# Altium footprint library con-amp-mt.PCBLIB: 51 footprints (part 3 of 4)
Each footprint in its own frame and in the unit in brackets; x right, y up, seen from the top. Pads: shape width x height; smd on the part's side, far side on the other; paste and mask are expansions set on the pad; w line width, h text height; cw(c..) or ccw(c..) is an arc to the next point about the centre after c.
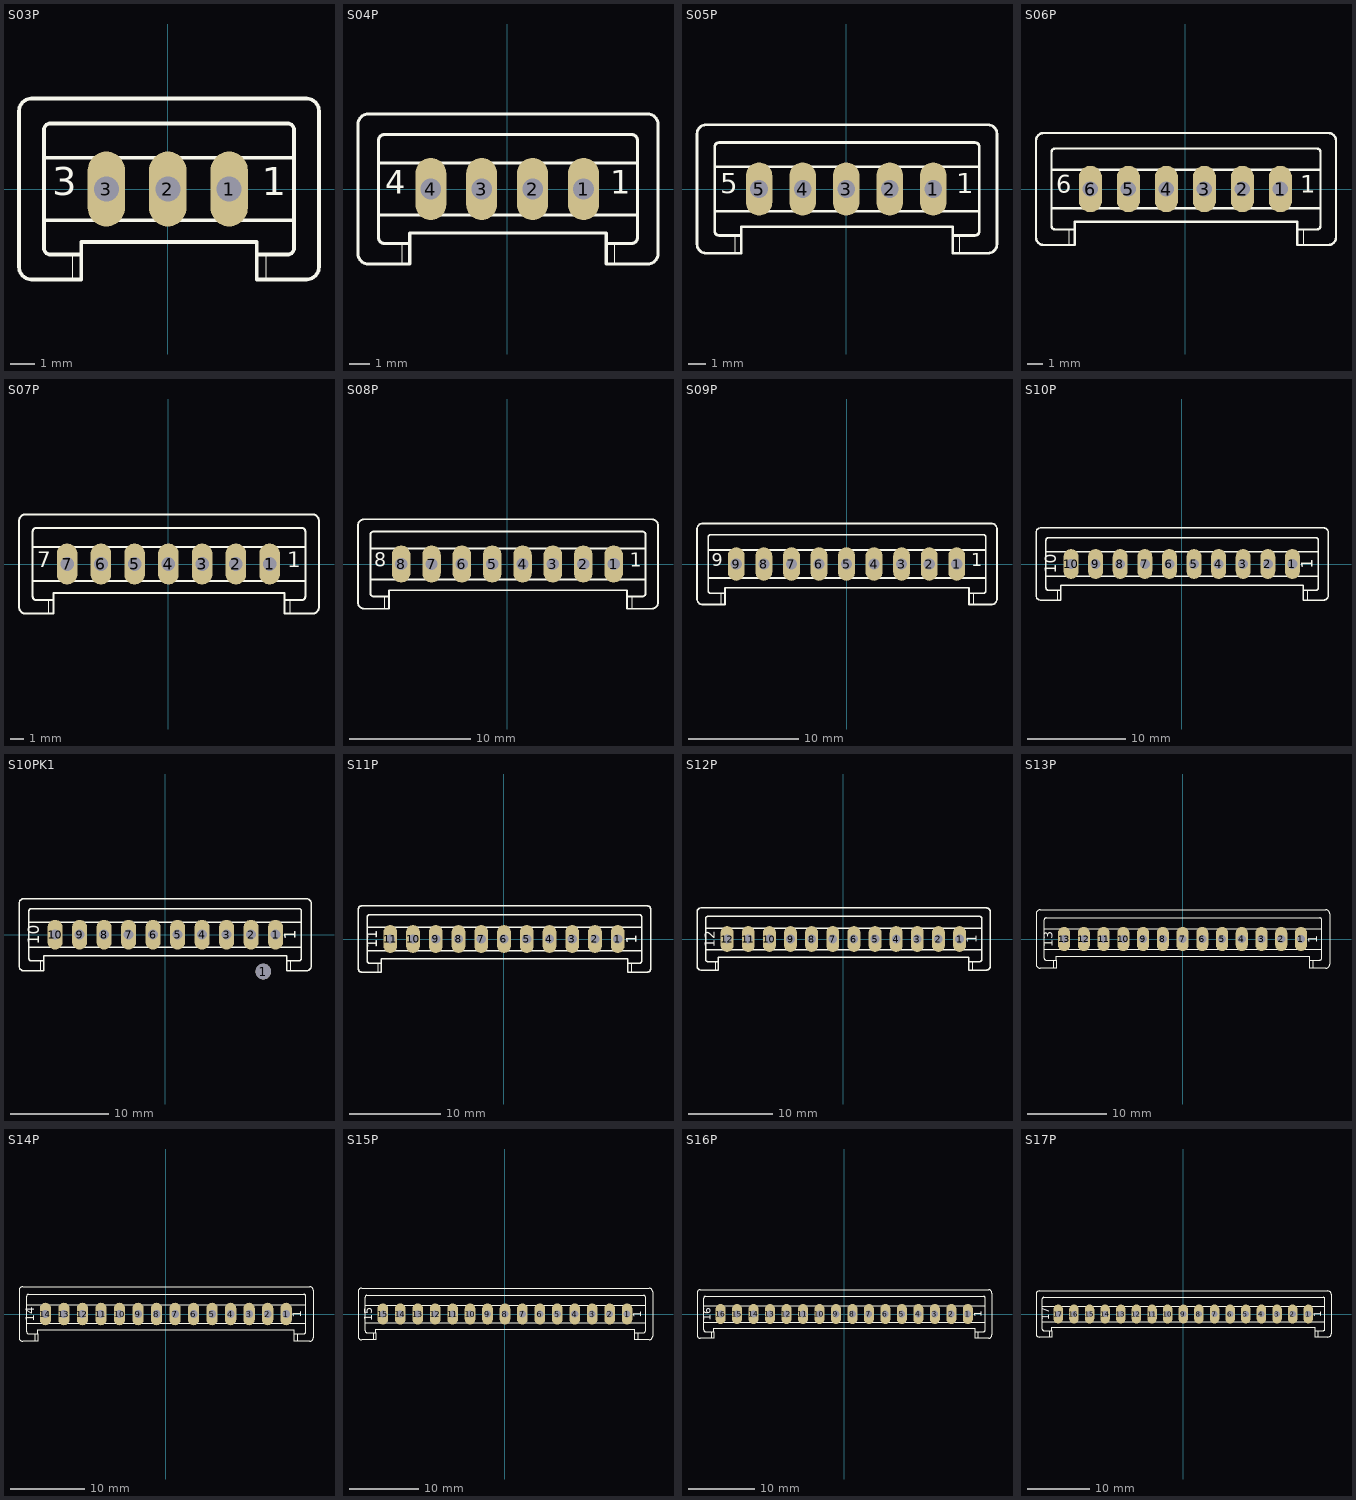
[diagram p2: the footprints below, top view; thin cyan lines are the x and y axes]

## S03P [mil]
pads (3):
  oval 60x120 hole 40: 1(98.43,0) 2(0,0) 3(-98.43,0)
Top Overlay:
  lines w2: -153.58,-145 -153.58,-105 ; 157.44,-145 157.44,-105
  lines w6: -198.58,-50 -198.58,-95 ccw(c-188.58,-95) -188.58,-105 -153.58,-105 -138.58,-105 ; -198.58,-50 202.44,-50 ; -198.58,-50 -198.58,50 ; -198.58,50 202.44,50 ; -198.58,50 -198.58,95 cw(c-188.58,95) -188.58,105 192.44,105 cw(c192.44,95) 202.44,95 202.44,50 ; -138.58,-105 -138.58,-145 -153.58,-145 -218.58,-145 cw(c-218.58,-125) -238.58,-125 -238.58,125 cw(c-218.58,125) -218.58,145 222.44,145 cw(c222.44,125) 242.44,125 242.44,-125 cw(c222.44,-125) 222.44,-145 157.44,-145 142.44,-145 142.44,-105 ; -138.58,-105 -138.58,-85 142.44,-85 142.44,-105 ; 142.44,-105 157.44,-105 192.44,-105 ccw(c192.44,-95) 202.44,-95 202.44,-50 ; 202.44,-50 202.44,50
  text "1" at 150.43,-25 h77.5
  text "3" at -185.57,-25 h77.5
Mechanical 16:
  lines w6: -112.56,-15 -82.56,-15 ; -112.56,-15 -112.56,15 ; -112.56,-15 -82.56,15 ; -112.56,15 -82.56,15 ; -112.56,15 -82.56,-15 ; -82.56,-15 -82.56,15 ; -14.57,-15 -14.57,15 ; -14.57,-15 15.43,15 ; -14.57,-15 15.43,-15 ; -14.57,15 15.43,15 ; -14.57,15 15.43,-15 ; 15.43,-15 15.43,15 ; 83.43,-15 83.43,15 ; 83.43,-15 113.43,15 ; 83.43,-15 113.43,-15 ; 83.43,15 113.43,15 ; 83.43,15 113.43,-15 ; 113.43,-15 113.43,15

## S04P [mil]
pads (4):
  oval 60x120 hole 40: 1(147.64,0) 2(49.21,0) 3(-49.21,0) 4(-147.64,0)
Top Overlay:
  lines w2: -203.35,-145 -203.35,-105 ; 206.65,-145 206.65,-105
  lines w6: -248.35,-50 -248.35,-95 ccw(c-238.35,-95) -238.35,-105 -203.35,-105 -188.35,-105 ; -248.35,-50 251.65,-50 ; -248.35,-50 -248.35,50 ; -248.35,50 251.65,50 ; -248.35,50 -248.35,95 cw(c-238.35,95) -238.35,105 241.65,105 cw(c241.65,95) 251.65,95 251.65,50 ; -188.35,-105 -188.35,-145 -203.35,-145 -268.35,-145 cw(c-268.35,-125) -288.35,-125 -288.35,125 cw(c-268.35,125) -268.35,145 271.65,145 cw(c271.65,125) 291.65,125 291.65,-125 cw(c271.65,-125) 271.65,-145 206.65,-145 191.65,-145 191.65,-105 ; -188.35,-105 -188.35,-85 191.65,-85 191.65,-105 ; 191.65,-105 206.65,-105 241.65,-105 ccw(c241.65,-95) 251.65,-95 251.65,-50 ; 251.65,-50 251.65,50
  text "1" at 199.64,-25 h77.5
  text "4" at -235.36,-25 h77.5
Mechanical 16:
  lines w6: -162.36,-15 -162.36,15 ; -162.36,-15 -132.36,-15 ; -162.36,-15 -132.36,15 ; -162.36,15 -132.36,15 ; -162.36,15 -132.36,-15 ; -132.36,-15 -132.36,15 ; -63.35,-15 -33.35,-15 ; -63.35,-15 -63.35,15 ; -63.35,-15 -33.35,15 ; -63.35,15 -33.35,15 ; -63.35,15 -33.35,-15 ; -33.35,-15 -33.35,15 ; 34.65,-15 34.65,15 ; 34.65,-15 64.65,15 ; 34.65,-15 64.65,-15 ; 34.65,15 64.65,15 ; 34.65,15 64.65,-15 ; 64.65,-15 64.65,15 ; 132.64,-15 132.64,15 ; 132.64,-15 162.64,15 ; 132.64,-15 162.64,-15 ; 132.64,15 162.64,15 ; 132.64,15 162.64,-15 ; 162.64,-15 162.64,15

## S05P [mil]
pads (5):
  oval 60x120 hole 40: 1(196.85,0) 2(98.43,0) 3(0,0) 4(-98.43,0) 5(-196.85,0)
Top Overlay:
  lines w2: -252.17,-145 -252.17,-105 ; 255.87,-145 255.87,-105
  lines w6: -297.17,-50 -297.17,-95 ccw(c-287.17,-95) -287.17,-105 -252.17,-105 -237.17,-105 ; -297.17,-50 300.87,-50 ; -297.17,-50 -297.17,50 ; -297.17,50 300.87,50 ; -297.17,50 -297.17,95 cw(c-287.17,95) -287.17,105 290.87,105 cw(c290.87,95) 300.87,95 300.87,50 ; -237.17,-105 -237.17,-145 -252.17,-145 -317.17,-145 cw(c-317.17,-125) -337.17,-125 -337.17,125 cw(c-317.17,125) -317.17,145 320.87,145 cw(c320.87,125) 340.87,125 340.87,-125 cw(c320.87,-125) 320.87,-145 255.87,-145 240.87,-145 240.87,-105 ; -237.17,-105 -237.17,-85 240.87,-85 240.87,-105 ; 240.87,-105 255.87,-105 290.87,-105 ccw(c290.87,-95) 300.87,-95 300.87,-50 ; 300.87,-50 300.87,50
  text "1" at 248.85,-25 h77.5
  text "5" at -284.15,-25 h77.5
Mechanical 16:
  lines w6: -211.14,-15 -181.14,15 ; -211.14,-15 -181.14,-15 ; -211.14,-15 -211.14,15 ; -211.14,15 -181.14,-15 ; -211.14,15 -181.14,15 ; -181.14,-15 -181.14,15 ; -113.15,-15 -113.15,15 ; -113.15,-15 -83.15,-15 ; -113.15,-15 -83.15,15 ; -113.15,15 -83.15,15 ; -113.15,15 -83.15,-15 ; -83.15,-15 -83.15,15 ; -14.13,-15 15.87,-15 ; -14.13,-15 -14.13,15 ; -14.13,-15 15.87,15 ; -14.13,15 15.87,15 ; -14.13,15 15.87,-15 ; 15.87,-15 15.87,15 ; 83.86,-15 83.86,15 ; 83.86,-15 113.86,15 ; 83.86,-15 113.86,-15 ; 83.86,15 113.86,15 ; 83.86,15 113.86,-15 ; 113.86,-15 113.86,15 ; 181.85,-15 181.85,15 ; 181.85,-15 211.85,15 ; 181.85,-15 211.85,-15 ; 181.85,15 211.85,15 ; 181.85,15 211.85,-15 ; 211.85,-15 211.85,15

## S06P [mil]
pads (6):
  oval 60x120 hole 40: 1(246.06,0) 2(147.64,0) 3(49.21,0) 4(-49.21,0) 5(-147.64,0) 6(-246.06,0)
Top Overlay:
  lines w2: -301.93,-145 -301.93,-105 ; 305.08,-145 305.08,-105
  lines w6: -346.93,-50 -346.93,-95 ccw(c-336.93,-95) -336.93,-105 -301.93,-105 -286.93,-105 ; -346.93,-50 350.08,-50 ; -346.93,-50 -346.93,50 ; -346.93,50 350.08,50 ; -346.93,50 -346.93,95 cw(c-336.93,95) -336.93,105 340.08,105 cw(c340.08,95) 350.08,95 350.08,50 ; -286.93,-105 -286.93,-145 -301.93,-145 -366.93,-145 cw(c-366.93,-125) -386.93,-125 -386.93,125 cw(c-366.93,125) -366.93,145 370.08,145 cw(c370.08,125) 390.08,125 390.08,-125 cw(c370.08,-125) 370.08,-145 305.08,-145 290.08,-145 290.08,-105 ; -286.93,-105 -286.93,-85 290.08,-85 290.08,-105 ; 290.08,-105 305.08,-105 340.08,-105 ccw(c340.08,-95) 350.08,-95 350.08,-50 ; 350.08,-50 350.08,50
  text "1" at 298.06,-25 h77.5
  text "6" at -333.94,-25 h77.5
Mechanical 16:
  lines w6: -261.93,-15 -231.93,15 ; -261.93,-15 -261.93,15 ; -261.93,-15 -231.93,-15 ; -261.93,15 -231.93,-15 ; -261.93,15 -231.93,15 ; -231.93,-15 -231.93,15 ; -161.93,-15 -131.93,15 ; -161.93,-15 -131.93,-15 ; -161.93,-15 -161.93,15 ; -161.93,15 -131.93,-15 ; -161.93,15 -131.93,15 ; -131.93,-15 -131.93,15 ; -63.94,-15 -63.94,15 ; -63.94,-15 -33.94,-15 ; -63.94,-15 -33.94,15 ; -63.94,15 -33.94,15 ; -63.94,15 -33.94,-15 ; -33.94,-15 -33.94,15 ; 35.08,-15 65.08,-15 ; 35.08,-15 35.08,15 ; 35.08,-15 65.08,15 ; 35.08,15 65.08,15 ; 35.08,15 65.08,-15 ; 65.08,-15 65.08,15 ; 133.07,-15 133.07,15 ; 133.07,-15 163.07,15 ; 133.07,-15 163.07,-15 ; 133.07,15 163.07,15 ; 133.07,15 163.07,-15 ; 163.07,-15 163.07,15 ; 231.06,-15 231.06,15 ; 231.06,-15 261.06,15 ; 231.06,-15 261.06,-15 ; 231.06,15 261.06,15 ; 231.06,15 261.06,-15 ; 261.06,-15 261.06,15

## S07P [mil]
pads (7):
  oval 60x120 hole 40: 1(295.28,0) 2(196.85,0) 3(98.43,0) 4(0,0) 5(-98.43,0) 6(-196.85,0) 7(-295.28,0)
Top Overlay:
  lines w2: -350.71,-145 -350.71,-105 ; 354.29,-145 354.29,-105
  lines w6: -395.71,-50 -395.71,-95 ccw(c-385.71,-95) -385.71,-105 -350.71,-105 -335.71,-105 ; -395.71,-50 399.29,-50 ; -395.71,-50 -395.71,50 ; -395.71,50 399.29,50 ; -395.71,50 -395.71,95 cw(c-385.71,95) -385.71,105 389.29,105 cw(c389.29,95) 399.29,95 399.29,50 ; -335.71,-105 -335.71,-145 -350.71,-145 -415.71,-145 cw(c-415.71,-125) -435.71,-125 -435.71,125 cw(c-415.71,125) -415.71,145 419.29,145 cw(c419.29,125) 439.29,125 439.29,-125 cw(c419.29,-125) 419.29,-145 354.29,-145 339.29,-145 339.29,-105 ; -335.71,-105 -335.71,-85 339.29,-85 339.29,-105 ; 339.29,-105 354.29,-105 389.29,-105 ccw(c389.29,-95) 399.29,-95 399.29,-50 ; 399.29,-50 399.29,50
  text "1" at 347.28,-25 h77.5
  text "7" at -382.72,-25 h77.5
Mechanical 16:
  lines w6: -310.71,-15 -280.71,-15 ; -310.71,-15 -310.71,15 ; -310.71,-15 -280.71,15 ; -310.71,15 -280.71,15 ; -310.71,15 -280.71,-15 ; -280.71,-15 -280.71,15 ; -212.72,-15 -182.72,15 ; -212.72,-15 -212.72,15 ; -212.72,-15 -182.72,-15 ; -212.72,15 -182.72,-15 ; -212.72,15 -182.72,15 ; -182.72,-15 -182.72,15 ; -112.72,-15 -82.72,15 ; -112.72,-15 -82.72,-15 ; -112.72,-15 -112.72,15 ; -112.72,15 -82.72,-15 ; -112.72,15 -82.72,15 ; -82.72,-15 -82.72,15 ; -14.72,-15 -14.72,15 ; -14.72,-15 15.28,-15 ; -14.72,-15 15.28,15 ; -14.72,15 15.28,15 ; -14.72,15 15.28,-15 ; 15.28,-15 15.28,15 ; 84.29,-15 114.29,-15 ; 84.29,-15 84.29,15 ; 84.29,-15 114.29,15 ; 84.29,15 114.29,15 ; 84.29,15 114.29,-15 ; 114.29,-15 114.29,15 ; 182.28,-15 182.28,15 ; 182.28,-15 212.28,15 ; 182.28,-15 212.28,-15 ; 182.28,15 212.28,15 ; 182.28,15 212.28,-15 ; 212.28,-15 212.28,15 ; 280.28,-15 280.28,15 ; 280.28,-15 310.28,15 ; 280.28,-15 310.28,-15 ; 280.28,15 310.28,15 ; 280.28,15 310.28,-15 ; 310.28,-15 310.28,15

## S08P [mil]
pads (8):
  oval 60x120 hole 40: 1(344.49,0) 2(246.06,0) 3(147.64,0) 4(49.21,0) 5(-49.21,0) 6(-147.64,0) 7(-246.06,0) 8(-344.49,0)
Top Overlay:
  lines w2: -399.53,-145 -399.53,-105 ; 403.5,-145 403.5,-105
  lines w6: -444.53,-50 -444.53,-95 ccw(c-434.53,-95) -434.53,-105 -399.53,-105 -384.53,-105 ; -444.53,-50 448.5,-50 ; -444.53,-50 -444.53,50 ; -444.53,50 448.5,50 ; -444.53,50 -444.53,95 cw(c-434.53,95) -434.53,105 438.5,105 cw(c438.5,95) 448.5,95 448.5,50 ; -384.53,-105 -384.53,-145 -399.53,-145 -464.53,-145 cw(c-464.53,-125) -484.53,-125 -484.53,125 cw(c-464.53,125) -464.53,145 468.5,145 cw(c468.5,125) 488.5,125 488.5,-125 cw(c468.5,-125) 468.5,-145 403.5,-145 388.5,-145 388.5,-105 ; -384.53,-105 -384.53,-85 388.5,-85 388.5,-105 ; 388.5,-105 403.5,-105 438.5,-105 ccw(c438.5,-95) 448.5,-95 448.5,-50 ; 448.5,-50 448.5,50
  text "1" at 396.49,-25 h77.5
  text "8" at -431.51,-25 h77.5
Mechanical 16:
  lines w6: -360.51,-15 -330.51,-15 ; -360.51,-15 -360.51,15 ; -360.51,-15 -330.51,15 ; -360.51,15 -330.51,15 ; -360.51,15 -330.51,-15 ; -330.51,-15 -330.51,15 ; -261.5,-15 -231.5,-15 ; -261.5,-15 -261.5,15 ; -261.5,-15 -231.5,15 ; -261.5,15 -231.5,15 ; -261.5,15 -231.5,-15 ; -231.5,-15 -231.5,15 ; -163.5,-15 -133.5,15 ; -163.5,-15 -163.5,15 ; -163.5,-15 -133.5,-15 ; -163.5,15 -133.5,-15 ; -163.5,15 -133.5,15 ; -133.5,-15 -133.5,15 ; -63.5,-15 -33.5,15 ; -63.5,-15 -33.5,-15 ; -63.5,-15 -63.5,15 ; -63.5,15 -33.5,-15 ; -63.5,15 -33.5,15 ; -33.5,-15 -33.5,15 ; 34.49,-15 34.49,15 ; 34.49,-15 64.49,-15 ; 34.49,-15 64.49,15 ; 34.49,15 64.49,15 ; 34.49,15 64.49,-15 ; 64.49,-15 64.49,15 ; 133.5,-15 163.5,-15 ; 133.5,-15 133.5,15 ; 133.5,-15 163.5,15 ; 133.5,15 163.5,15 ; 133.5,15 163.5,-15 ; 163.5,-15 163.5,15 ; 231.5,-15 231.5,15 ; 231.5,-15 261.5,15 ; 231.5,-15 261.5,-15 ; 231.5,15 261.5,15 ; 231.5,15 261.5,-15 ; 261.5,-15 261.5,15 ; 329.49,-15 329.49,15 ; 329.49,-15 359.49,15 ; 329.49,-15 359.49,-15 ; 329.49,15 359.49,15 ; 329.49,15 359.49,-15 ; 359.49,-15 359.49,15

## S09P [mil]
pads (9):
  oval 60x120 hole 40: 1(393.7,0) 2(295.28,0) 3(196.85,0) 4(98.43,0) 5(0,0) 6(-98.43,0) 7(-196.85,0) 8(-295.28,0) 9(-393.7,0)
Top Overlay:
  lines w2: -449.3,-145 -449.3,-105 ; 452.7,-145 452.7,-105
  lines w6: -494.3,-50 -494.3,-95 ccw(c-484.3,-95) -484.3,-105 -449.3,-105 -434.3,-105 ; -494.3,-50 497.7,-50 ; -494.3,-50 -494.3,50 ; -494.3,50 497.7,50 ; -494.3,50 -494.3,95 cw(c-484.3,95) -484.3,105 487.7,105 cw(c487.7,95) 497.7,95 497.7,50 ; -434.3,-105 -434.3,-145 -449.3,-145 -514.3,-145 cw(c-514.3,-125) -534.3,-125 -534.3,125 cw(c-514.3,125) -514.3,145 517.7,145 cw(c517.7,125) 537.7,125 537.7,-125 cw(c517.7,-125) 517.7,-145 452.7,-145 437.7,-145 437.7,-105 ; -434.3,-105 -434.3,-85 437.7,-85 437.7,-105 ; 437.7,-105 452.7,-105 487.7,-105 ccw(c487.7,-95) 497.7,-95 497.7,-50 ; 497.7,-50 497.7,50
  text "1" at 445.7,-25 h77.5
  text "9" at -481.3,-25 h77.5
Mechanical 16:
  lines w6: -409.3,-15 -409.3,15 ; -409.3,-15 -379.3,15 ; -409.3,-15 -379.3,-15 ; -409.3,15 -379.3,15 ; -409.3,15 -379.3,-15 ; -379.3,-15 -379.3,15 ; -311.3,-15 -281.3,-15 ; -311.3,-15 -311.3,15 ; -311.3,-15 -281.3,15 ; -311.3,15 -281.3,15 ; -311.3,15 -281.3,-15 ; -281.3,-15 -281.3,15 ; -212.3,-15 -182.3,-15 ; -212.3,-15 -212.3,15 ; -212.3,-15 -182.3,15 ; -212.3,15 -182.3,15 ; -212.3,15 -182.3,-15 ; -182.3,-15 -182.3,15 ; -114.3,-15 -84.3,15 ; -114.3,-15 -114.3,15 ; -114.3,-15 -84.3,-15 ; -114.3,15 -84.3,-15 ; -114.3,15 -84.3,15 ; -84.3,-15 -84.3,15 ; -14.3,-15 15.7,15 ; -14.3,-15 15.7,-15 ; -14.3,-15 -14.3,15 ; -14.3,15 15.7,-15 ; -14.3,15 15.7,15 ; 15.7,-15 15.7,15 ; 83.7,-15 83.7,15 ; 83.7,-15 113.7,-15 ; 83.7,-15 113.7,15 ; 83.7,15 113.7,15 ; 83.7,15 113.7,-15 ; 113.7,-15 113.7,15 ; 182.7,-15 212.7,-15 ; 182.7,-15 182.7,15 ; 182.7,-15 212.7,15 ; 182.7,15 212.7,15 ; 182.7,15 212.7,-15 ; 212.7,-15 212.7,15 ; 280.7,-15 280.7,15 ; 280.7,-15 310.7,15 ; 280.7,-15 310.7,-15 ; 280.7,15 310.7,15 ; 280.7,15 310.7,-15 ; 310.7,-15 310.7,15 ; 378.7,-15 378.7,15 ; 378.7,-15 408.7,15 ; 378.7,-15 408.7,-15 ; 378.7,15 408.7,15 ; 378.7,15 408.7,-15 ; 408.7,-15 408.7,15

## S10P [mil]
pads (10):
  oval 60x120 hole 40: 1(442.91,0) 2(344.49,0) 3(246.06,0) 4(147.64,0) 5(49.21,0) 6(-49.21,0) 7(-147.64,0) 8(-246.06,0) 9(-344.49,0) 10(-442.91,0)
Top Overlay:
  lines w2: -498.07,-145 -498.07,-105 ; 501.93,-145 501.93,-105
  lines w6: -543.07,-50 -543.07,-95 ccw(c-533.07,-95) -533.07,-105 -498.07,-105 -483.07,-105 ; -543.07,-50 546.93,-50 ; -543.07,-50 -543.07,50 ; -543.07,50 546.93,50 ; -543.07,50 -543.07,95 cw(c-533.07,95) -533.07,105 536.93,105 cw(c536.93,95) 546.93,95 546.93,50 ; -483.07,-105 -483.07,-145 -498.07,-145 -563.07,-145 cw(c-563.07,-125) -583.07,-125 -583.07,125 cw(c-563.07,125) -563.07,145 566.93,145 cw(c566.93,125) 586.93,125 586.93,-125 cw(c566.93,-125) 566.93,-145 501.93,-145 486.93,-145 486.93,-105 ; -483.07,-105 -483.07,-85 486.93,-85 486.93,-105 ; 486.93,-105 501.93,-105 536.93,-105 ccw(c536.93,-95) 546.93,-95 546.93,-50 ; 546.93,-50 546.93,50
  text "1" at 539.91,-20 h77.5
  text "10" at -485.09,-40 h77.5
Mechanical 16:
  lines w6: -458.07,-15 -428.07,-15 ; -458.07,-15 -458.07,15 ; -458.07,-15 -428.07,15 ; -458.07,15 -428.07,15 ; -458.07,15 -428.07,-15 ; -428.07,-15 -428.07,15 ; -360.08,-15 -360.08,15 ; -360.08,-15 -330.08,15 ; -360.08,-15 -330.08,-15 ; -360.08,15 -330.08,15 ; -360.08,15 -330.08,-15 ; -330.08,-15 -330.08,15 ; -262.09,-15 -232.09,-15 ; -262.09,-15 -262.09,15 ; -262.09,-15 -232.09,15 ; -262.09,15 -232.09,15 ; -262.09,15 -232.09,-15 ; -232.09,-15 -232.09,15 ; -163.07,-15 -133.07,-15 ; -163.07,-15 -163.07,15 ; -163.07,-15 -133.07,15 ; -163.07,15 -133.07,15 ; -163.07,15 -133.07,-15 ; -133.07,-15 -133.07,15 ; -65.08,-15 -35.08,15 ; -65.08,-15 -65.08,15 ; -65.08,-15 -35.08,-15 ; -65.08,15 -35.08,-15 ; -65.08,15 -35.08,15 ; -35.08,-15 -35.08,15 ; 34.92,-15 64.92,15 ; 34.92,-15 64.92,-15 ; 34.92,-15 34.92,15 ; 34.92,15 64.92,-15 ; 34.92,15 64.92,15 ; 64.92,-15 64.92,15 ; 132.91,-15 132.91,15 ; 132.91,-15 162.91,-15 ; 132.91,-15 162.91,15 ; 132.91,15 162.91,15 ; 132.91,15 162.91,-15 ; 162.91,-15 162.91,15 ; 231.93,-15 261.93,-15 ; 231.93,-15 231.93,15 ; 231.93,-15 261.93,15 ; 231.93,15 261.93,15 ; 231.93,15 261.93,-15 ; 261.93,-15 261.93,15 ; 329.92,-15 329.92,15 ; 329.92,-15 359.92,15 ; 329.92,-15 359.92,-15 ; 329.92,15 359.92,15 ; 329.92,15 359.92,-15 ; 359.92,-15 359.92,15 ; 427.91,-15 427.91,15 ; 427.91,-15 457.91,15 ; 427.91,-15 457.91,-15 ; 427.91,15 457.91,15 ; 427.91,15 457.91,-15 ; 457.91,-15 457.91,15

## S10PK1 [mil]
pads (11):
  round 63 hole 63: 1(393.91,-148)
  oval 60x120 hole 40: 1(442.91,0) 2(344.49,0) 3(246.06,0) 4(147.64,0) 5(49.21,0) 6(-49.21,0) 7(-147.64,0) 8(-246.06,0) 9(-344.49,0) 10(-442.91,0)
Top Overlay:
  lines w2: -503.07,-145 -503.07,-105 ; 501.93,-145 501.93,-105
  lines w6: -548.07,-50 -548.07,-95 ccw(c-538.07,-95) -538.07,-105 -503.07,-105 -488.07,-105 ; -548.07,-50 546.93,-50 ; -548.07,-50 -548.07,50 ; -548.07,50 546.93,50 ; -548.07,50 -548.07,95 cw(c-538.07,95) -538.07,105 536.93,105 cw(c536.93,95) 546.93,95 546.93,50 ; -488.07,-105 -488.07,-145 -503.07,-145 -568.07,-145 cw(c-568.07,-125) -588.07,-125 -588.07,125 cw(c-568.07,125) -568.07,145 566.93,145 cw(c566.93,125) 586.93,125 586.93,-125 cw(c566.93,-125) 566.93,-145 501.93,-145 486.93,-145 486.93,-105 ; -488.07,-105 -488.07,-85 486.93,-85 486.93,-105 ; 486.93,-105 501.93,-105 536.93,-105 ccw(c536.93,-95) 546.93,-95 546.93,-50 ; 546.93,-50 546.93,50
  text "1" at 539.91,-20 h77.5
  text "10" at -490.09,-40 h77.5
Mechanical 16:
  lines w6: -458.07,-15 -428.07,-15 ; -458.07,-15 -458.07,15 ; -458.07,-15 -428.07,15 ; -458.07,15 -428.07,15 ; -458.07,15 -428.07,-15 ; -428.07,-15 -428.07,15 ; -360.08,-15 -360.08,15 ; -360.08,-15 -330.08,15 ; -360.08,-15 -330.08,-15 ; -360.08,15 -330.08,15 ; -360.08,15 -330.08,-15 ; -330.08,-15 -330.08,15 ; -262.09,-15 -232.09,-15 ; -262.09,-15 -262.09,15 ; -262.09,-15 -232.09,15 ; -262.09,15 -232.09,15 ; -262.09,15 -232.09,-15 ; -232.09,-15 -232.09,15 ; -163.07,-15 -133.07,-15 ; -163.07,-15 -163.07,15 ; -163.07,-15 -133.07,15 ; -163.07,15 -133.07,15 ; -163.07,15 -133.07,-15 ; -133.07,-15 -133.07,15 ; -65.08,-15 -35.08,15 ; -65.08,-15 -65.08,15 ; -65.08,-15 -35.08,-15 ; -65.08,15 -35.08,-15 ; -65.08,15 -35.08,15 ; -35.08,-15 -35.08,15 ; 34.92,-15 64.92,15 ; 34.92,-15 64.92,-15 ; 34.92,-15 34.92,15 ; 34.92,15 64.92,-15 ; 34.92,15 64.92,15 ; 64.92,-15 64.92,15 ; 132.91,-15 132.91,15 ; 132.91,-15 162.91,-15 ; 132.91,-15 162.91,15 ; 132.91,15 162.91,15 ; 132.91,15 162.91,-15 ; 162.91,-15 162.91,15 ; 231.93,-15 261.93,-15 ; 231.93,-15 231.93,15 ; 231.93,-15 261.93,15 ; 231.93,15 261.93,15 ; 231.93,15 261.93,-15 ; 261.93,-15 261.93,15 ; 329.92,-15 329.92,15 ; 329.92,-15 359.92,15 ; 329.92,-15 359.92,-15 ; 329.92,15 359.92,15 ; 329.92,15 359.92,-15 ; 359.92,-15 359.92,15 ; 427.91,-15 427.91,15 ; 427.91,-15 457.91,15 ; 427.91,-15 457.91,-15 ; 427.91,15 457.91,15 ; 427.91,15 457.91,-15 ; 457.91,-15 457.91,15

## S11P [mil]
pads (11):
  oval 60x120 hole 40: 1(492.13,0) 2(393.7,0) 3(295.28,0) 4(196.85,0) 5(98.43,0) 6(0,0) 7(-98.43,0) 8(-196.85,0) 9(-295.28,0) 10(-393.7,0) 11(-492.13,0)
Top Overlay:
  lines w2: -546.89,-145 -546.89,-105 ; 551.14,-145 551.14,-105
  lines w6: -591.89,-50 -591.89,-95 ccw(c-581.89,-95) -581.89,-105 -546.89,-105 -531.89,-105 ; -591.89,-50 596.14,-50 ; -591.89,-50 -591.89,50 ; -591.89,50 596.14,50 ; -591.89,50 -591.89,95 cw(c-581.89,95) -581.89,105 586.14,105 cw(c586.14,95) 596.14,95 596.14,50 ; -531.89,-105 -531.89,-145 -546.89,-145 -611.89,-145 cw(c-611.89,-125) -631.89,-125 -631.89,125 cw(c-611.89,125) -611.89,145 616.14,145 cw(c616.14,125) 636.14,125 636.14,-125 cw(c616.14,-125) 616.14,-145 551.14,-145 536.14,-145 536.14,-105 ; -531.89,-105 -531.89,-85 536.14,-85 536.14,-105 ; 536.14,-105 551.14,-105 586.14,-105 ccw(c586.14,-95) 596.14,-95 596.14,-50 ; 596.14,-50 596.14,50
  text "1" at 589.13,-20 h77.5
  text "11" at -533.87,-40 h77.5
Mechanical 16:
  lines w6: -506.89,-15 -476.89,-15 ; -506.89,-15 -506.89,15 ; -506.89,-15 -476.89,15 ; -506.89,15 -476.89,-15 ; -506.89,15 -476.89,15 ; -476.89,-15 -476.89,15 ; -408.86,-15 -378.86,-15 ; -408.86,-15 -408.86,15 ; -408.86,-15 -378.86,15 ; -408.86,15 -378.86,15 ; -408.86,15 -378.86,-15 ; -378.86,-15 -378.86,15 ; -310.87,-15 -310.87,15 ; -310.87,-15 -280.87,15 ; -310.87,-15 -280.87,-15 ; -310.87,15 -280.87,15 ; -310.87,15 -280.87,-15 ; -280.87,-15 -280.87,15 ; -212.87,-15 -182.87,-15 ; -212.87,-15 -212.87,15 ; -212.87,-15 -182.87,15 ; -212.87,15 -182.87,15 ; -212.87,15 -182.87,-15 ; -182.87,-15 -182.87,15 ; -113.86,-15 -83.86,-15 ; -113.86,-15 -113.86,15 ; -113.86,-15 -83.86,15 ; -113.86,15 -83.86,15 ; -113.86,15 -83.86,-15 ; -83.86,-15 -83.86,15 ; -15.87,-15 14.13,15 ; -15.87,-15 -15.87,15 ; -15.87,-15 14.13,-15 ; -15.87,15 14.13,-15 ; -15.87,15 14.13,15 ; 14.13,-15 14.13,15 ; 84.13,-15 114.13,15 ; 84.13,-15 114.13,-15 ; 84.13,-15 84.13,15 ; 84.13,15 114.13,-15 ; 84.13,15 114.13,15 ; 114.13,-15 114.13,15 ; 182.13,-15 182.13,15 ; 182.13,-15 212.13,-15 ; 182.13,-15 212.13,15 ; 182.13,15 212.13,15 ; 182.13,15 212.13,-15 ; 212.13,-15 212.13,15 ; 281.14,-15 311.14,-15 ; 281.14,-15 281.14,15 ; 281.14,-15 311.14,15 ; 281.14,15 311.14,15 ; 281.14,15 311.14,-15 ; 311.14,-15 311.14,15 ; 379.13,-15 379.13,15 ; 379.13,-15 409.13,15 ; 379.13,-15 409.13,-15 ; 379.13,15 409.13,15 ; 379.13,15 409.13,-15 ; 409.13,-15 409.13,15 ; 477.13,-15 477.13,15 ; 477.13,-15 507.13,15 ; 477.13,-15 507.13,-15 ; 477.13,15 507.13,15 ; 477.13,15 507.13,-15 ; 507.13,-15 507.13,15

## S12P [mil]
pads (12):
  oval 60x120 hole 40: 1(541.34,0) 2(442.91,0) 3(344.49,0) 4(246.06,0) 5(147.64,0) 6(49.21,0) 7(-49.21,0) 8(-147.64,0) 9(-246.06,0) 10(-344.49,0) 11(-442.91,0) 12(-541.34,0)
Top Overlay:
  lines w2: -596.65,-145 -596.65,-105 ; 600.35,-145 600.35,-105
  lines w6: -641.65,-50 -641.65,-95 ccw(c-631.65,-95) -631.65,-105 -596.65,-105 -581.65,-105 ; -641.65,-50 645.35,-50 ; -641.65,-50 -641.65,50 ; -641.65,50 645.35,50 ; -641.65,50 -641.65,95 cw(c-631.65,95) -631.65,105 635.35,105 cw(c635.35,95) 645.35,95 645.35,50 ; -581.65,-105 -581.65,-145 -596.65,-145 -661.65,-145 cw(c-661.65,-125) -681.65,-125 -681.65,125 cw(c-661.65,125) -661.65,145 665.35,145 cw(c665.35,125) 685.35,125 685.35,-125 cw(c665.35,-125) 665.35,-145 600.35,-145 585.35,-145 585.35,-105 ; -581.65,-105 -581.65,-85 585.35,-85 585.35,-105 ; 585.35,-105 600.35,-105 635.35,-105 ccw(c635.35,-95) 645.35,-95 645.35,-50 ; 645.35,-50 645.35,50
  text "1" at 638.34,-20 h77.5
  text "12" at -583.66,-40 h77.5
Mechanical 16:
  lines w6: -556.65,-15 -526.65,15 ; -556.65,-15 -556.65,15 ; -556.65,-15 -526.65,-15 ; -556.65,15 -526.65,-15 ; -556.65,15 -526.65,15 ; -526.65,-15 -526.65,15 ; -457.68,-15 -427.68,15 ; -457.68,-15 -457.68,15 ; -457.68,-15 -427.68,-15 ; -457.68,15 -427.68,-15 ; -457.68,15 -427.68,15 ; -427.68,-15 -427.68,15 ; -359.65,-15 -329.65,-15 ; -359.65,-15 -359.65,15 ; -359.65,-15 -329.65,15 ; -359.65,15 -329.65,15 ; -359.65,15 -329.65,-15 ; -329.65,-15 -329.65,15 ; -261.65,-15 -261.65,15 ; -261.65,-15 -231.65,15 ; -261.65,-15 -231.65,-15 ; -261.65,15 -231.65,15 ; -261.65,15 -231.65,-15 ; -231.65,-15 -231.65,15 ; -163.66,-15 -133.66,-15 ; -163.66,-15 -163.66,15 ; -163.66,-15 -133.66,15 ; -163.66,15 -133.66,15 ; -163.66,15 -133.66,-15 ; -133.66,-15 -133.66,15 ; -64.65,-15 -34.65,-15 ; -64.65,-15 -64.65,15 ; -64.65,-15 -34.65,15 ; -64.65,15 -34.65,15 ; -64.65,15 -34.65,-15 ; -34.65,-15 -34.65,15 ; 33.35,-15 63.35,15 ; 33.35,-15 33.35,15 ; 33.35,-15 63.35,-15 ; 33.35,15 63.35,-15 ; 33.35,15 63.35,15 ; 63.35,-15 63.35,15 ; 133.35,-15 163.35,15 ; 133.35,-15 163.35,-15 ; 133.35,-15 133.35,15 ; 133.35,15 163.35,-15 ; 133.35,15 163.35,15 ; 163.35,-15 163.35,15 ; 231.34,-15 231.34,15 ; 231.34,-15 261.34,-15 ; 231.34,-15 261.34,15 ; 231.34,15 261.34,15 ; 231.34,15 261.34,-15 ; 261.34,-15 261.34,15 ; 330.35,-15 360.35,-15 ; 330.35,-15 330.35,15 ; 330.35,-15 360.35,15 ; 330.35,15 360.35,15 ; 330.35,15 360.35,-15 ; 360.35,-15 360.35,15 ; 428.35,-15 428.35,15 ; 428.35,-15 458.35,15 ; 428.35,-15 458.35,-15 ; 428.35,15 458.35,15 ; 428.35,15 458.35,-15 ; 458.35,-15 458.35,15 ; 526.34,-15 526.34,15 ; 526.34,-15 556.34,15 ; 526.34,-15 556.34,-15 ; 526.34,15 556.34,15 ; 526.34,15 556.34,-15 ; 556.34,-15 556.34,15

## S13P [mil]
pads (13):
  oval 60x120 hole 40: 1(590.55,0) 2(492.13,0) 3(393.7,0) 4(295.28,0) 5(196.85,0) 6(98.43,0) 7(0,0) 8(-98.43,0) 9(-196.85,0) 10(-295.28,0) 11(-393.7,0) 12(-492.13,0) 13(-590.55,0)
Top Overlay:
  lines w2: -645.43,-145 -645.43,-105 ; 649.57,-145 649.57,-105
  lines w6: -690.43,-50 -690.43,-95 ccw(c-680.43,-95) -680.43,-105 -645.43,-105 -630.43,-105 ; -690.43,-50 694.57,-50 ; -690.43,-50 -690.43,50 ; -690.43,50 694.57,50 ; -690.43,50 -690.43,95 cw(c-680.43,95) -680.43,105 684.57,105 cw(c684.57,95) 694.57,95 694.57,50 ; -630.43,-105 -630.43,-145 -645.43,-145 -710.43,-145 cw(c-710.43,-125) -730.43,-125 -730.43,125 cw(c-710.43,125) -710.43,145 714.57,145 cw(c714.57,125) 734.57,125 734.57,-125 cw(c714.57,-125) 714.57,-145 649.57,-145 634.57,-145 634.57,-105 ; -630.43,-105 -630.43,-85 634.57,-85 634.57,-105 ; 634.57,-105 649.57,-105 684.57,-105 ccw(c684.57,-95) 694.57,-95 694.57,-50 ; 694.57,-50 694.57,50
  text "1" at 687.55,-20 h77.5
  text "13" at -632.45,-40 h77.5
Mechanical 16:
  lines w6: -605.43,-15 -575.43,15 ; -605.43,-15 -575.43,-15 ; -605.43,-15 -605.43,15 ; -605.43,15 -575.43,-15 ; -605.43,15 -575.43,15 ; -575.43,-15 -575.43,15 ; -507.44,-15 -477.44,15 ; -507.44,-15 -477.44,-15 ; -507.44,-15 -507.44,15 ; -507.44,15 -477.44,-15 ; -507.44,15 -477.44,15 ; -477.44,-15 -477.44,15 ; -408.46,-15 -378.46,15 ; -408.46,-15 -378.46,-15 ; -408.46,-15 -408.46,15 ; -408.46,15 -378.46,-15 ; -408.46,15 -378.46,15 ; -378.46,-15 -378.46,15 ; -310.43,-15 -280.43,-15 ; -310.43,-15 -310.43,15 ; -310.43,-15 -280.43,15 ; -310.43,15 -280.43,15 ; -310.43,15 -280.43,-15 ; -280.43,-15 -280.43,15 ; -212.44,-15 -212.44,15 ; -212.44,-15 -182.44,15 ; -212.44,-15 -182.44,-15 ; -212.44,15 -182.44,15 ; -212.44,15 -182.44,-15 ; -182.44,-15 -182.44,15 ; -114.45,-15 -84.45,-15 ; -114.45,-15 -114.45,15 ; -114.45,-15 -84.45,15 ; -114.45,15 -84.45,15 ; -114.45,15 -84.45,-15 ; -84.45,-15 -84.45,15 ; -15.43,-15 14.57,-15 ; -15.43,-15 -15.43,15 ; -15.43,-15 14.57,15 ; -15.43,15 14.57,15 ; -15.43,15 14.57,-15 ; 14.57,-15 14.57,15 ; 82.56,-15 112.56,15 ; 82.56,-15 82.56,15 ; 82.56,-15 112.56,-15 ; 82.56,15 112.56,-15 ; 82.56,15 112.56,15 ; 112.56,-15 112.56,15 ; 182.56,-15 212.56,15 ; 182.56,-15 212.56,-15 ; 182.56,-15 182.56,15 ; 182.56,15 212.56,-15 ; 182.56,15 212.56,15 ; 212.56,-15 212.56,15 ; 280.55,-15 280.55,15 ; 280.55,-15 310.55,-15 ; 280.55,-15 310.55,15 ; 280.55,15 310.55,15 ; 280.55,15 310.55,-15 ; 310.55,-15 310.55,15 ; 379.57,-15 409.57,-15 ; 379.57,-15 379.57,15 ; 379.57,-15 409.57,15 ; 379.57,15 409.57,15 ; 379.57,15 409.57,-15 ; 409.57,-15 409.57,15 ; 477.56,-15 477.56,15 ; 477.56,-15 507.56,15 ; 477.56,-15 507.56,-15 ; 477.56,15 507.56,15 ; 477.56,15 507.56,-15 ; 507.56,-15 507.56,15 ; 575.55,-15 575.55,15 ; 575.55,-15 605.55,15 ; 575.55,-15 605.55,-15 ; 575.55,15 605.55,15 ; 575.55,15 605.55,-15 ; 605.55,-15 605.55,15

## S14P [mil]
pads (14):
  oval 60x120 hole 40: 1(639.76,0) 2(541.34,0) 3(442.91,0) 4(344.49,0) 5(246.06,0) 6(147.64,0) 7(49.21,0) 8(-49.21,0) 9(-147.64,0) 10(-246.06,0) 11(-344.49,0) 12(-442.91,0) 13(-541.34,0) 14(-639.76,0)
Top Overlay:
  lines w2: -695.24,-145 -695.24,-105 ; 698.78,-145 698.78,-105
  lines w6: -740.24,-50 -740.24,-95 ccw(c-730.24,-95) -730.24,-105 -695.24,-105 -680.24,-105 ; -740.24,-50 743.78,-50 ; -740.24,-50 -740.24,50 ; -740.24,50 743.78,50 ; -740.24,50 -740.24,95 cw(c-730.24,95) -730.24,105 733.78,105 cw(c733.78,95) 743.78,95 743.78,50 ; -680.24,-105 -680.24,-145 -695.24,-145 -760.24,-145 cw(c-760.24,-125) -780.24,-125 -780.24,125 cw(c-760.24,125) -760.24,145 763.78,145 cw(c763.78,125) 783.78,125 783.78,-125 cw(c763.78,-125) 763.78,-145 698.78,-145 683.78,-145 683.78,-105 ; -680.24,-105 -680.24,-85 683.78,-85 683.78,-105 ; 683.78,-105 698.78,-105 733.78,-105 ccw(c733.78,-95) 743.78,-95 743.78,-50 ; 743.78,-50 743.78,50
  text "1" at 736.76,-20 h77.5
  text "14" at -682.24,-40 h77.5
Mechanical 16:
  lines w6: -655.24,-15 -625.24,-15 ; -655.24,-15 -655.24,15 ; -655.24,-15 -625.24,15 ; -655.24,15 -625.24,-15 ; -655.24,15 -625.24,15 ; -625.24,-15 -625.24,15 ; -556.22,-15 -526.22,-15 ; -556.22,-15 -556.22,15 ; -556.22,-15 -526.22,15 ; -556.22,15 -526.22,-15 ; -556.22,15 -526.22,15 ; -526.22,-15 -526.22,15 ; -458.23,-15 -428.23,-15 ; -458.23,-15 -458.23,15 ; -458.23,-15 -428.23,15 ; -458.23,15 -428.23,-15 ; -458.23,15 -428.23,15 ; -428.23,-15 -428.23,15 ; -359.25,-15 -329.25,-15 ; -359.25,-15 -359.25,15 ; -359.25,-15 -329.25,15 ; -359.25,15 -329.25,-15 ; -359.25,15 -329.25,15 ; -329.25,-15 -329.25,15 ; -261.22,-15 -231.22,-15 ; -261.22,-15 -261.22,15 ; -261.22,-15 -231.22,15 ; -261.22,15 -231.22,15 ; -261.22,15 -231.22,-15 ; -231.22,-15 -231.22,15 ; -163.23,-15 -163.23,15 ; -163.23,-15 -133.23,15 ; -163.23,-15 -133.23,-15 ; -163.23,15 -133.23,15 ; -163.23,15 -133.23,-15 ; -133.23,-15 -133.23,15 ; -65.24,-15 -35.24,-15 ; -65.24,-15 -65.24,15 ; -65.24,-15 -35.24,15 ; -65.24,15 -35.24,15 ; -65.24,15 -35.24,-15 ; -35.24,-15 -35.24,15 ; 33.78,-15 63.78,-15 ; 33.78,-15 33.78,15 ; 33.78,-15 63.78,15 ; 33.78,15 63.78,15 ; 33.78,15 63.78,-15 ; 63.78,-15 63.78,15 ; 131.77,-15 161.77,15 ; 131.77,-15 131.77,15 ; 131.77,-15 161.77,-15 ; 131.77,15 161.77,-15 ; 131.77,15 161.77,15 ; 161.77,-15 161.77,15 ; 231.77,-15 261.77,15 ; 231.77,-15 261.77,-15 ; 231.77,-15 231.77,15 ; 231.77,15 261.77,-15 ; 231.77,15 261.77,15 ; 261.77,-15 261.77,15 ; 329.76,-15 329.76,15 ; 329.76,-15 359.76,-15 ; 329.76,-15 359.76,15 ; 329.76,15 359.76,15 ; 329.76,15 359.76,-15 ; 359.76,-15 359.76,15 ; 428.78,-15 458.78,-15 ; 428.78,-15 428.78,15 ; 428.78,-15 458.78,15 ; 428.78,15 458.78,15 ; 428.78,15 458.78,-15 ; 458.78,-15 458.78,15 ; 526.77,-15 526.77,15 ; 526.77,-15 556.77,15 ; 526.77,-15 556.77,-15 ; 526.77,15 556.77,15 ; 526.77,15 556.77,-15 ; 556.77,-15 556.77,15 ; 624.76,-15 624.76,15 ; 624.76,-15 654.76,15 ; 624.76,-15 654.76,-15 ; 624.76,15 654.76,15 ; 624.76,15 654.76,-15 ; 654.76,-15 654.76,15

## S15P [mil]
pads (15):
  oval 60x120 hole 40: 1(688.98,0) 2(590.55,0) 3(492.13,0) 4(393.7,0) 5(295.28,0) 6(196.85,0) 7(98.43,0) 8(0,0) 9(-98.43,0) 10(-196.85,0) 11(-295.28,0) 12(-393.7,0) 13(-492.13,0) 14(-590.55,0) 15(-688.98,0)
Top Overlay:
  lines w2: -744.02,-145 -744.02,-105 ; 747.99,-145 747.99,-105
  lines w6: -789.02,-50 -789.02,-95 ccw(c-779.02,-95) -779.02,-105 -744.02,-105 -729.02,-105 ; -789.02,-50 792.99,-50 ; -789.02,-50 -789.02,50 ; -789.02,50 792.99,50 ; -789.02,50 -789.02,95 cw(c-779.02,95) -779.02,105 782.99,105 cw(c782.99,95) 792.99,95 792.99,50 ; -729.02,-105 -729.02,-145 -744.02,-145 -809.02,-145 cw(c-809.02,-125) -829.02,-125 -829.02,125 cw(c-809.02,125) -809.02,145 812.99,145 cw(c812.99,125) 832.99,125 832.99,-125 cw(c812.99,-125) 812.99,-145 747.99,-145 732.99,-145 732.99,-105 ; -729.02,-105 -729.02,-85 732.99,-85 732.99,-105 ; 732.99,-105 747.99,-105 782.99,-105 ccw(c782.99,-95) 792.99,-95 792.99,-50 ; 792.99,-50 792.99,50
  text "1" at 785.98,-20 h77.5
  text "15" at -731.02,-40 h77.5
Mechanical 16:
  lines w6: -704.02,-15 -674.02,-15 ; -704.02,-15 -704.02,15 ; -704.02,-15 -674.02,15 ; -704.02,15 -674.02,-15 ; -704.02,15 -674.02,15 ; -674.02,-15 -674.02,15 ; -606.02,-15 -576.02,-15 ; -606.02,-15 -606.02,15 ; -606.02,-15 -576.02,15 ; -606.02,15 -576.02,-15 ; -606.02,15 -576.02,15 ; -576.02,-15 -576.02,15 ; -507.01,-15 -477.01,-15 ; -507.01,-15 -507.01,15 ; -507.01,-15 -477.01,15 ; -507.01,15 -477.01,-15 ; -507.01,15 -477.01,15 ; -477.01,-15 -477.01,15 ; -409.02,-15 -379.02,-15 ; -409.02,-15 -409.02,15 ; -409.02,-15 -379.02,15 ; -409.02,15 -379.02,-15 ; -409.02,15 -379.02,15 ; -379.02,-15 -379.02,15 ; -310.04,-15 -280.04,-15 ; -310.04,-15 -310.04,15 ; -310.04,-15 -280.04,15 ; -310.04,15 -280.04,-15 ; -310.04,15 -280.04,15 ; -280.04,-15 -280.04,15 ; -212.01,-15 -182.01,-15 ; -212.01,-15 -212.01,15 ; -212.01,-15 -182.01,15 ; -212.01,15 -182.01,15 ; -212.01,15 -182.01,-15 ; -182.01,-15 -182.01,15 ; -114.02,-15 -114.02,15 ; -114.02,-15 -84.02,15 ; -114.02,-15 -84.02,-15 ; -114.02,15 -84.02,15 ; -114.02,15 -84.02,-15 ; -84.02,-15 -84.02,15 ; -16.02,-15 13.98,-15 ; -16.02,-15 -16.02,15 ; -16.02,-15 13.98,15 ; -16.02,15 13.98,15 ; -16.02,15 13.98,-15 ; 13.98,-15 13.98,15 ; 82.99,-15 112.99,-15 ; 82.99,-15 82.99,15 ; 82.99,-15 112.99,15 ; 82.99,15 112.99,15 ; 82.99,15 112.99,-15 ; 112.99,-15 112.99,15 ; 180.98,-15 210.98,15 ; 180.98,-15 180.98,15 ; 180.98,-15 210.98,-15 ; 180.98,15 210.98,-15 ; 180.98,15 210.98,15 ; 210.98,-15 210.98,15 ; 280.98,-15 310.98,15 ; 280.98,-15 310.98,-15 ; 280.98,-15 280.98,15 ; 280.98,15 310.98,-15 ; 280.98,15 310.98,15 ; 310.98,-15 310.98,15 ; 378.98,-15 378.98,15 ; 378.98,-15 408.98,-15 ; 378.98,-15 408.98,15 ; 378.98,15 408.98,15 ; 378.98,15 408.98,-15 ; 408.98,-15 408.98,15 ; 477.99,-15 507.99,-15 ; 477.99,-15 477.99,15 ; 477.99,-15 507.99,15 ; 477.99,15 507.99,15 ; 477.99,15 507.99,-15 ; 507.99,-15 507.99,15 ; 575.98,-15 575.98,15 ; 575.98,-15 605.98,15 ; 575.98,-15 605.98,-15 ; 575.98,15 605.98,15 ; 575.98,15 605.98,-15 ; 605.98,-15 605.98,15 ; 673.98,-15 673.98,15 ; 673.98,-15 703.98,15 ; 673.98,-15 703.98,-15 ; 673.98,15 703.98,15 ; 673.98,15 703.98,-15 ; 703.98,-15 703.98,15

## S16P [mil]
pads (16):
  oval 60x120 hole 40: 1(738.19,0) 2(639.76,0) 3(541.34,0) 4(442.91,0) 5(344.49,0) 6(246.06,0) 7(147.64,0) 8(49.21,0) 9(-49.21,0) 10(-147.64,0) 11(-246.06,0) 12(-344.49,0) 13(-442.91,0) 14(-541.34,0) 15(-639.76,0) 16(-737.81,0)
Top Overlay:
  lines w2: -793.82,-145 -793.82,-105 ; 797.2,-145 797.2,-105
  lines w6: -838.82,-50 -838.82,-95 ccw(c-828.82,-95) -828.82,-105 -793.82,-105 -778.82,-105 ; -838.82,-50 842.2,-50 ; -838.82,-50 -838.82,50 ; -838.82,50 842.2,50 ; -838.82,50 -838.82,95 cw(c-828.82,95) -828.82,105 832.2,105 cw(c832.2,95) 842.2,95 842.2,50 ; -778.82,-105 -778.82,-145 -793.82,-145 -858.82,-145 cw(c-858.82,-125) -878.82,-125 -878.82,125 cw(c-858.82,125) -858.82,145 862.2,145 cw(c862.2,125) 882.2,125 882.2,-125 cw(c862.2,-125) 862.2,-145 797.2,-145 782.2,-145 782.2,-105 ; -778.82,-105 -778.82,-85 782.2,-85 782.2,-105 ; 782.2,-105 797.2,-105 832.2,-105 ccw(c832.2,-95) 842.2,-95 842.2,-50 ; 842.2,-50 842.2,50
  text "1" at 835.19,-20 h77.5
  text "16" at -780.81,-40 h77.5
Mechanical 16:
  lines w6: -752.8,-15 -752.8,15 ; -752.8,-15 -722.8,-15 ; -752.8,-15 -722.8,15 ; -752.8,15 -722.8,-15 ; -752.8,15 -722.8,15 ; -722.8,-15 -722.8,15 ; -654.8,-15 -654.8,15 ; -654.8,-15 -624.8,-15 ; -654.8,-15 -624.8,15 ; -654.8,15 -624.8,-15 ; -654.8,15 -624.8,15 ; -624.8,-15 -624.8,15 ; -556.81,-15 -556.81,15 ; -556.81,-15 -526.81,-15 ; -556.81,-15 -526.81,15 ; -556.81,15 -526.81,-15 ; -556.81,15 -526.81,15 ; -526.81,-15 -526.81,15 ; -457.8,-15 -457.8,15 ; -457.8,-15 -427.8,-15 ; -457.8,-15 -427.8,15 ; -457.8,15 -427.8,-15 ; -457.8,15 -427.8,15 ; -427.8,-15 -427.8,15 ; -359.8,-15 -359.8,15 ; -359.8,-15 -329.8,-15 ; -359.8,-15 -329.8,15 ; -359.8,15 -329.8,-15 ; -359.8,15 -329.8,15 ; -329.8,-15 -329.8,15 ; -260.83,-15 -260.83,15 ; -260.83,-15 -230.83,-15 ; -260.83,-15 -230.83,15 ; -260.83,15 -230.83,-15 ; -260.83,15 -230.83,15 ; -230.83,-15 -230.83,15 ; -162.8,-15 -132.8,-15 ; -162.8,-15 -162.8,15 ; -162.8,-15 -132.8,15 ; -162.8,15 -132.8,15 ; -162.8,15 -132.8,-15 ; -132.8,-15 -132.8,15 ; -64.8,-15 -64.8,15 ; -64.8,-15 -34.8,15 ; -64.8,-15 -34.8,-15 ; -64.8,15 -34.8,15 ; -64.8,15 -34.8,-15 ; -34.8,-15 -34.8,15 ; 33.19,-15 63.19,-15 ; 33.19,-15 33.19,15 ; 33.19,-15 63.19,15 ; 33.19,15 63.19,15 ; 33.19,15 63.19,-15 ; 63.19,-15 63.19,15 ; 132.2,-15 162.2,-15 ; 132.2,-15 132.2,15 ; 132.2,-15 162.2,15 ; 132.2,15 162.2,15 ; 132.2,15 162.2,-15 ; 162.2,-15 162.2,15 ; 230.2,-15 260.2,15 ; 230.2,-15 230.2,15 ; 230.2,-15 260.2,-15 ; 230.2,15 260.2,-15 ; 230.2,15 260.2,15 ; 260.2,-15 260.2,15 ; 330.2,-15 360.2,15 ; 330.2,-15 360.2,-15 ; 330.2,-15 330.2,15 ; 330.2,15 360.2,-15 ; 330.2,15 360.2,15 ; 360.2,-15 360.2,15 ; 428.19,-15 428.19,15 ; 428.19,-15 458.19,-15 ; 428.19,-15 458.19,15 ; 428.19,15 458.19,15 ; 428.19,15 458.19,-15 ; 458.19,-15 458.19,15 ; 527.2,-15 557.2,-15 ; 527.2,-15 527.2,15 ; 527.2,-15 557.2,15 ; 527.2,15 557.2,15 ; 527.2,15 557.2,-15 ; 557.2,-15 557.2,15 ; 625.2,-15 625.2,15 ; 625.2,-15 655.2,15 ; 625.2,-15 655.2,-15 ; 625.2,15 655.2,15 ; 625.2,15 655.2,-15 ; 655.2,-15 655.2,15 ; 723.19,-15 723.19,15 ; 723.19,-15 753.19,15 ; 723.19,-15 753.19,-15 ; 723.19,15 753.19,15 ; 723.19,15 753.19,-15 ; 753.19,-15 753.19,15

## S17P [mil]
pads (17):
  oval 60x120 hole 40: 1(787.4,0) 2(688.98,0) 3(590.55,0) 4(492.13,0) 5(393.7,0) 6(295.28,0) 7(196.85,0) 8(98.43,0) 9(0,0) 10(-98.43,0) 11(-196.85,0) 12(-295.28,0) 13(-393.7,0) 14(-492.13,0) 15(-590.55,0) 16(-688.6,0) 17(-787.6,0)
Top Overlay:
  lines w2: -842.6,-145 -842.6,-105 ; 846.42,-145 846.42,-105
  lines w6: -887.6,-50 -887.6,-95 ccw(c-877.6,-95) -877.6,-105 -842.6,-105 -827.6,-105 ; -887.6,-50 891.42,-50 ; -887.6,-50 -887.6,50 ; -887.6,50 891.42,50 ; -887.6,50 -887.6,95 cw(c-877.6,95) -877.6,105 881.42,105 cw(c881.42,95) 891.42,95 891.42,50 ; -827.6,-105 -827.6,-145 -842.6,-145 -907.6,-145 cw(c-907.6,-125) -927.6,-125 -927.6,125 cw(c-907.6,125) -907.6,145 911.42,145 cw(c911.42,125) 931.42,125 931.42,-125 cw(c911.42,-125) 911.42,-145 846.42,-145 831.42,-145 831.42,-105 ; -827.6,-105 -827.6,-85 831.42,-85 831.42,-105 ; 831.42,-105 846.42,-105 881.42,-105 ccw(c881.42,-95) 891.42,-95 891.42,-50 ; 891.42,-50 891.42,50
  text "1" at 884.4,-20 h77.5
  text "17" at -829.6,-40 h77.5
Mechanical 16:
  lines w6: -802.6,-15 -772.6,-15 ; -802.6,-15 -802.6,15 ; -802.6,-15 -772.6,15 ; -802.6,15 -772.6,-15 ; -802.6,15 -772.6,15 ; -772.6,-15 -772.6,15 ; -703.58,-15 -673.58,-15 ; -703.58,-15 -703.58,15 ; -703.58,-15 -673.58,15 ; -703.58,15 -673.58,-15 ; -703.58,15 -673.58,15 ; -673.58,-15 -673.58,15 ; -605.59,-15 -575.59,-15 ; -605.59,-15 -605.59,15 ; -605.59,-15 -575.59,15 ; -605.59,15 -575.59,-15 ; -605.59,15 -575.59,15 ; -575.59,-15 -575.59,15 ; -507.6,-15 -477.6,-15 ; -507.6,-15 -507.6,15 ; -507.6,-15 -477.6,15 ; -507.6,15 -477.6,-15 ; -507.6,15 -477.6,15 ; -477.6,-15 -477.6,15 ; -408.58,-15 -378.58,-15 ; -408.58,-15 -408.58,15 ; -408.58,-15 -378.58,15 ; -408.58,15 -378.58,-15 ; -408.58,15 -378.58,15 ; -378.58,-15 -378.58,15 ; -310.59,-15 -280.59,-15 ; -310.59,-15 -310.59,15 ; -310.59,-15 -280.59,15 ; -310.59,15 -280.59,-15 ; -310.59,15 -280.59,15 ; -280.59,-15 -280.59,15 ; -211.61,-15 -181.61,-15 ; -211.61,-15 -211.61,15 ; -211.61,-15 -181.61,15 ; -211.61,15 -181.61,-15 ; -211.61,15 -181.61,15 ; -181.61,-15 -181.61,15 ; -113.58,-15 -83.58,-15 ; -113.58,-15 -113.58,15 ; -113.58,-15 -83.58,15 ; -113.58,15 -83.58,15 ; -113.58,15 -83.58,-15 ; -83.58,-15 -83.58,15 ; -15.59,-15 -15.59,15 ; -15.59,-15 14.41,15 ; -15.59,-15 14.41,-15 ; -15.59,15 14.41,15 ; -15.59,15 14.41,-15 ; 14.41,-15 14.41,15 ; 82.4,-15 112.4,-15 ; 82.4,-15 82.4,15 ; 82.4,-15 112.4,15 ; 82.4,15 112.4,15 ; 82.4,15 112.4,-15 ; 112.4,-15 112.4,15 ; 181.42,-15 211.42,-15 ; 181.42,-15 181.42,15 ; 181.42,-15 211.42,15 ; 181.42,15 211.42,15 ; 181.42,15 211.42,-15 ; 211.42,-15 211.42,15 ; 279.41,-15 309.41,15 ; 279.41,-15 279.41,15 ; 279.41,-15 309.41,-15 ; 279.41,15 309.41,-15 ; 279.41,15 309.41,15 ; 309.41,-15 309.41,15 ; 379.41,-15 409.41,15 ; 379.41,-15 409.41,-15 ; 379.41,-15 379.41,15 ; 379.41,15 409.41,-15 ; 379.41,15 409.41,15 ; 409.41,-15 409.41,15 ; 477.4,-15 477.4,15 ; 477.4,-15 507.4,-15 ; 477.4,-15 507.4,15 ; 477.4,15 507.4,15 ; 477.4,15 507.4,-15 ; 507.4,-15 507.4,15 ; 576.42,-15 606.42,-15 ; 576.42,-15 576.42,15 ; 576.42,-15 606.42,15 ; 576.42,15 606.42,15 ; 576.42,15 606.42,-15 ; 606.42,-15 606.42,15 ; 674.41,-15 674.41,15 ; 674.41,-15 704.41,15 ; 674.41,-15 704.41,-15 ; 674.41,15 704.41,15 ; 674.41,15 704.41,-15 ; 704.41,-15 704.41,15 ; 772.4,-15 772.4,15 ; 772.4,-15 802.4,15 ; 772.4,-15 802.4,-15 ; 772.4,15 802.4,15 ; 772.4,15 802.4,-15 ; 802.4,-15 802.4,15